# Altium footprint library Radial_12.5x40mm.PcbLib: 1 footprints
Each footprint in its own frame and in the unit in brackets; x right, y up, seen from the top. Pads: shape width x height; smd on the part's side, far side on the other; paste and mask are expansions set on the pad; w line width, h text height; cw(c..) or ccw(c..) is an arc to the next point about the centre after c.
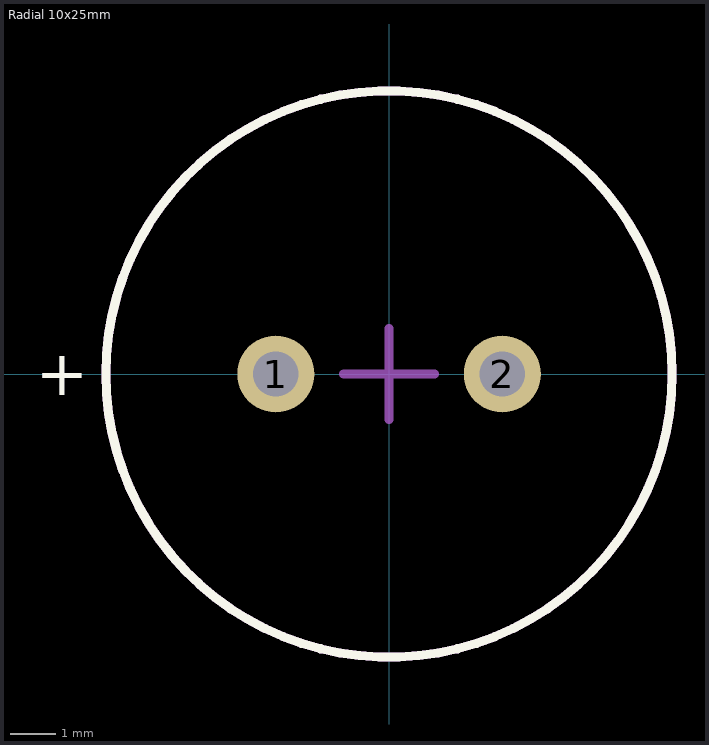
[diagram p0: the footprint, top view; thin cyan lines are the x and y axes]

## Radial 10x25mm [mm] "Polarized aluminum electrolytic capacitor, 12.5x40mm"
height 41.5
pads (2):
  round 1.7 hole 1: 1(-2.5,0) 2(2.5,0)
Top Overlay:
  circle w0.2: c0,0 r6.25
  text "+" at -7.797,-0.466 h1.02
Mechanical 13:
  circle w0.2: c0,0 r6.25
Mechanical 15:
  lines w0.2: -1,0 0,0 ; 0,-1 0,0 ; 0,1 0,0 ; 1,0 0,0
3D body "Radial_12.5x40mm.STEP": height 40, standoff -17, extent -6.25,-6.249 6.25,6.249